# Altium footprint library Footprint.PcbLib: 240 footprints (part 12 of 15)
Each footprint in its own frame and in the unit in brackets; x right, y up, seen from the top. Pads: shape width x height; smd on the part's side, far side on the other; paste and mask are expansions set on the pad; w line width, h text height; cw(c..) or ccw(c..) is an arc to the next point about the centre after c.
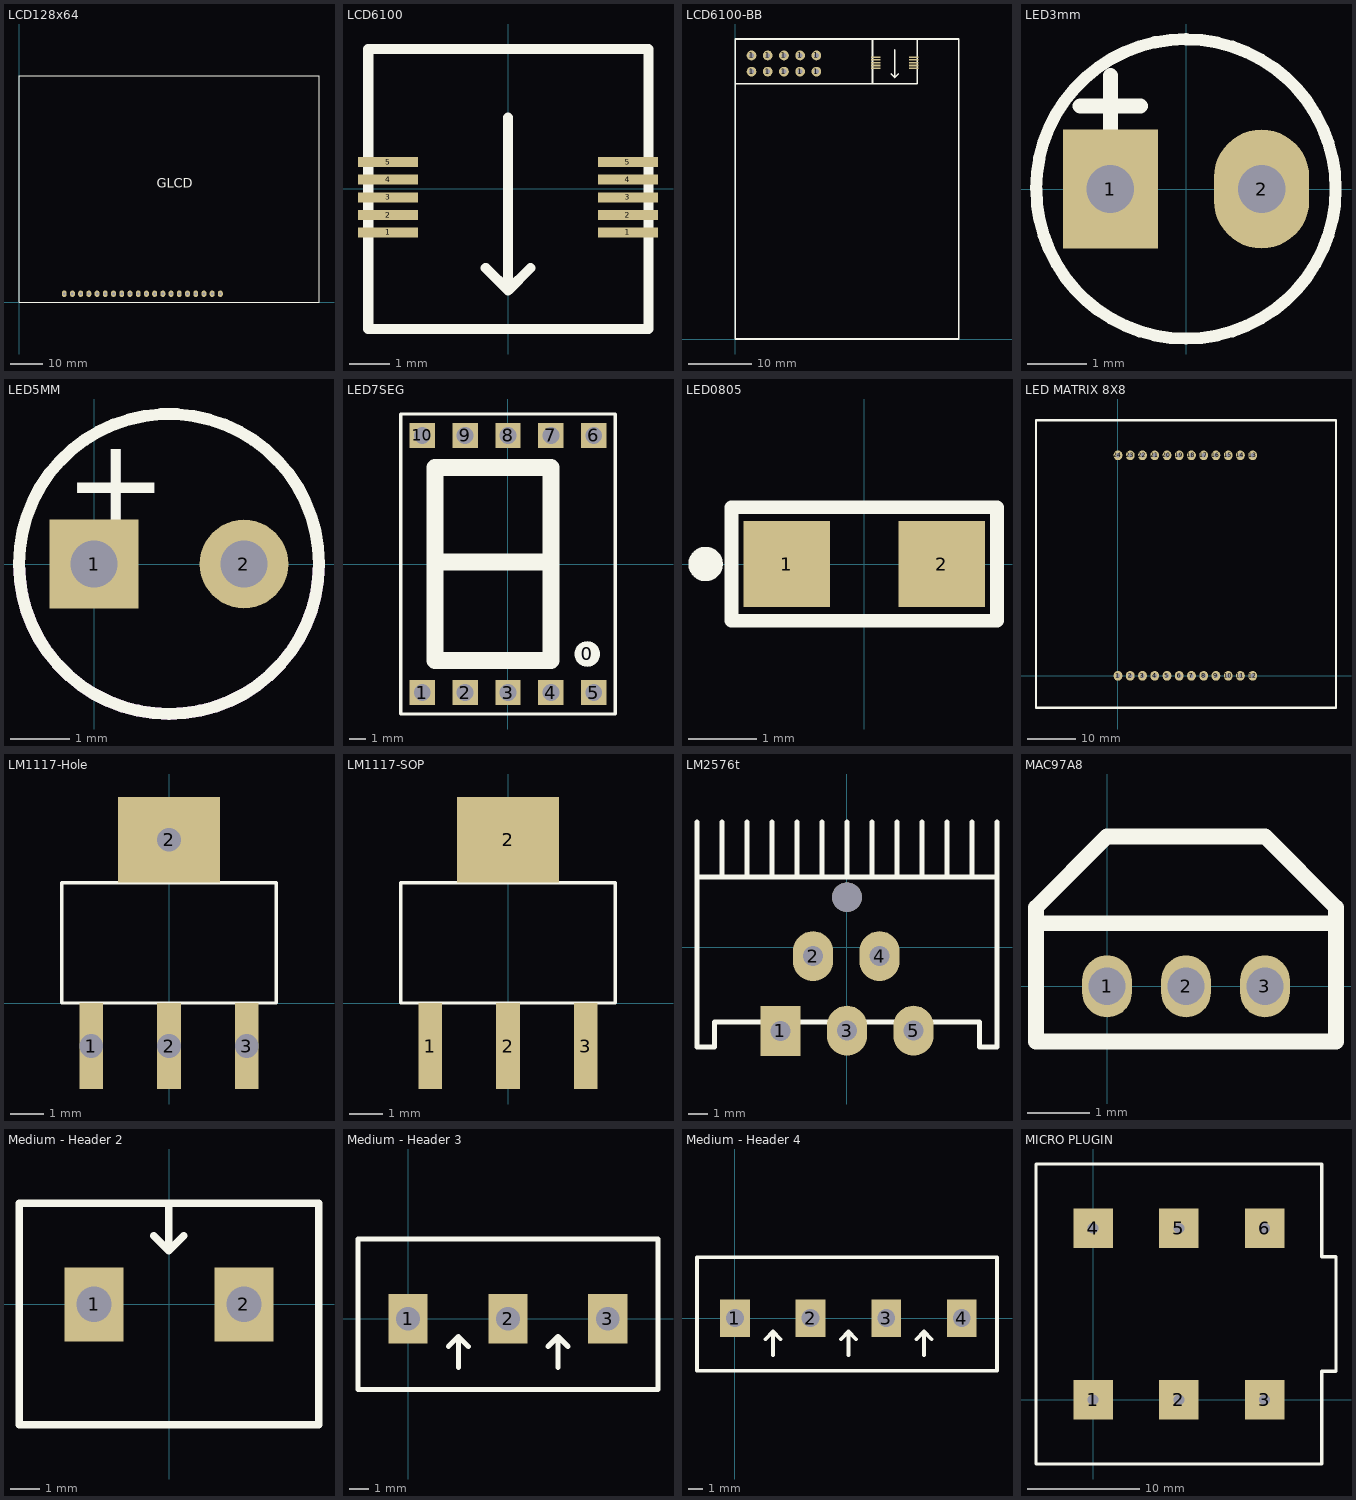
[diagram p11: the footprints below, top view; thin cyan lines are the x and y axes]

## LCD128x64 [mm]
pads (20):
  oval 1.5x2 hole 0.8: 1(62.23,2.54) 2(59.69,2.54) 3(57.15,2.54) 4(54.61,2.54) 5(52.07,2.54) 6(49.53,2.54) 7(46.99,2.54) 8(44.45,2.54) 9(41.91,2.54) 10(39.37,2.54) 11(36.83,2.54) 12(34.29,2.54) 13(31.75,2.54) 14(29.21,2.54) 15(26.67,2.54) 16(24.13,2.54) 17(21.59,2.54) 18(19.05,2.54) 19(16.51,2.54) 20(13.97,2.54)
Top Overlay:
  lines w0.15: 0,0 92.71,0 92.71,69.85 0,69.85 0,0
  text "GLCD" at 42.545,34.163 h5
3D body: height 15.4, standoff 0, extent -2.27,1.04 77.73,55.04

## LCD6100 [mm]
pads (10):
  rect 1.5x0.25 smd: 1(-3,-1.091) 1(2.994,-1.091) 2(-3,-0.66) 2(2.994,-0.66) 3(-3,-0.215) 3(2.994,-0.215) 4(-3,0.229) 4(2.994,0.229) 5(-3,0.661) 5(2.994,0.661)
Top Overlay:
  lines w0.254: -0.559,-1.981 0,-2.54 ; 0,1.778 0,-2.54 ; 0.559,-1.981 0,-2.54 ; -3.493,-3.507 -3.493,3.493 3.507,3.493 3.507,-3.507 -3.493,-3.507

## LCD6100-BB [mil]
pads (20):
  round 60 hole 30: 1(100,1649) 1(100,1749) 1(200,1649) 1(200,1749) 1(300,1649) 1(300,1749) 1(400,1649) 1(400,1749) 1(500,1649) 1(500,1749)
  rect 59.06x9.84 smd: 1(865.83,1669.92) 1(1101.83,1669.92) 2(865.83,1686.92) 2(1101.83,1686.92) 3(865.83,1704.42) 3(1101.83,1704.42) 4(865.83,1721.92) 4(1101.83,1721.92) 5(865.83,1738.92) 5(1101.83,1738.92)
Top Overlay:
  lines w10: 0,0 1377.95,0 1377.95,1849.39 ; 0,1 0,1850.39 1377.95,1850.39 ; 0,1574.8 1122.05,1574.8 ; 961.96,1634.89 983.96,1612.89 ; 983.96,1782.89 983.96,1612.89 ; 1005.96,1634.89 983.96,1612.89 ; 1122.05,1574.8 1122.05,1850.39 846.46,1850.39 846.46,1574.8 1122.05,1574.8

## LED3mm [mm]
pads (2):
  rect 1.6x2 hole 0.8: 1(-1.27,0)
  oval 1.6x2 hole 0.8: 2(1.27,0)
Top Overlay:
  lines w0.203: -2.521,0 cw(c0,0) 0,2.521 ; -2.514,0 ccw(c0,0) 0,-2.514 ccw(c0,0) 2.514,0 ccw(c0,0) 0,2.514
  lines w0.254: -1.778,1.397 -0.762,1.397 ; -1.27,0.889 -1.27,1.905
3D body: height 5.38, standoff -3.17, extent -1.992,-1.499 1.992,1.994

## LED5MM [mm]
pads (2):
  rect 1.5x1.5 hole 0.8: 1(0,0)
  round 1.5 hole 0.8: 2(2.54,0)
Top Overlay:
  lines w0.203: -1.27,0 cw(c1.27,0) 3.81,0 cw(c1.27,0) 1.27,-2.54 cw(c1.27,0) -1.27,0
  text "+" at -0.508,0.635 h1.52
Mechanical 1:
  lines w0.203: -1.27,0 ccw(c1.27,0) 1.27,-2.54 ccw(c1.27,0) 3.81,0

## LED7SEG [mm] "LED7SEG"
pads (11):
  round 1.524 on Top Overlay: 0(4.724,-5.334)
  rect 1.5x1.5 hole 1: 1(-5.055,-7.62) 2(-2.515,-7.62) 3(0.025,-7.62) 4(2.565,-7.62) 5(5.105,-7.62) 6(5.105,7.62) 7(2.565,7.62) 8(0.025,7.62) 9(-2.515,7.62) 10(-5.055,7.62)
Top Overlay:
  lines w0.2: -6.325,-8.89 6.375,-8.89 6.375,8.89 -6.325,8.89 -6.325,-8.89
  lines w1: -4.166,0.127 2.565,0.127 ; -4.293,-5.715 -4.293,5.715 2.565,5.715 2.565,-5.715 -4.293,-5.715
3D body: height 8.03, standoff -3.97, extent -6.35,-9.525 6.35,9.525

## LED0805 [mil] "Chip Resistor; Body 2.0 x 1.3 mm (LxW typ)"
height 100
pads (2):
  rect 50x50 smd: 1(-45,0) 2(45,0)
Top Overlay:
  circle w10: c-92,0 r5
  lines w7.87: 77,32 77,-33 -77,-33 -77,33 77,33
3D body: height 19.68, standoff 0, extent -60,-25 60,25
3D body: height 47.24, standoff 19.68, extent -35,-25 35,25

## LED MATRIX 8X8 [mm]
pads (24):
  oval 1.8x2 hole 0.9: 1(0,0) 2(2.54,0) 3(5.08,0) 4(7.62,0) 5(10.16,0) 6(12.7,0) 7(15.24,0) 8(17.78,0) 9(20.32,0) 10(22.86,0) 11(25.4,0) 12(27.94,0) 13(27.94,45.72) 14(25.4,45.72) 15(22.86,45.72) 16(20.32,45.72) 17(17.78,45.72) 18(15.24,45.72) 19(12.7,45.72) 20(10.16,45.72) 21(7.62,45.72) 22(5.08,45.72) 23(2.54,45.72) 24(0,45.72)
Top Overlay:
  lines w0.5: -17.006,-6.65 -17.006,53.04 -2.401,53.04 45.224,53.04 45.224,-6.65 -17.006,-6.65

## LM1117-Hole [mm]
pads (4):
  rect 0.7x2.54 hole 0.7: 1(-2.3,-1.27) 2(0,-1.27) 3(2.3,-1.27)
  rect 3x2.54 hole 0.7: 2(0,4.826)
Top Overlay:
  lines w0.1: -3.175,0 3.175,0 3.175,3.556 -3.175,3.556 -3.175,0
3D body: height 1.68, standoff 0, extent -3.25,-1.702 3.25,5.258

## LM1117-SOP [mm]
pads (4):
  rect 0.7x2.54 smd: 1(-2.3,-1.27) 2(0,-1.27) 3(2.3,-1.27)
  rect 3x2.54 smd: 2(0,4.826)
Top Overlay:
  lines w0.1: -3.175,0 -3.175,3.556 3.175,3.556 3.175,0 -3.175,0
3D body: height 1.68, standoff 0, extent -3.25,-1.778 3.25,5.182

## LM2576t [mil]
pads (6):
  rect 80x100 hole 40: 1(-132,-167.09)
  oval 80x100 hole 40: 2(-67,-18) 3(1,-167) 4(66,-18) 5(134,-167)
  round 59.06 hole 59.06: ""(1,100)
Top Overlay:
  lines w10: -299,140 301,140 ; -299,250 -299,-200 -264,-200 -264,-150 266,-150 266,-200 301,-200 301,250 ; -249,140 -249,250 ; -199,140 -199,250 ; -149,140 -149,250 ; -99,140 -99,250 ; -49,140 -49,250 ; 1,140 1,250 ; 51,140 51,250 ; 101,140 101,250 ; 151,140 151,250 ; 201,140 201,250 ; 251,140 251,250
3D body: height 859.05, standoff -85.43, extent -199,-174.91 201,149.5

## MAC97A8 [mm]
pads (3):
  oval 0.8x1 hole 0.6: 1(0,0) 2(1.27,0) 3(2.54,0)
Top Overlay:
  lines w0.254: -1.143,1.016 -1.143,-0.889 3.683,-0.889 3.683,1.016 ; -1.143,1.016 -1.143,1.27 0,2.413 2.54,2.413 3.683,1.27 3.683,1.016 ; -1.143,1.016 3.683,1.016

## Medium - Header 2 [mm]
pads (2):
  rect 2x2.5 hole 1.2: 1(-2.54,0) 2(2.54,0)
Top Overlay:
  lines w0.254: -0.521,2.324 -0.013,1.816 ; -0.013,3.378 -0.013,1.816 ; 0.495,2.324 -0.013,1.816 ; -5.08,-4.077 5.08,-4.077 5.08,3.429 -5.08,3.429 -5.08,-4.077
3D body: height 10, standoff -4, extent -5,-4.071 5,3.429

## Medium - Header 3 [mm]
pads (3):
  rect 2x2.5 hole 1.2: 1(0,0) 2(5.08,0) 3(10.147,0)
Top Overlay:
  lines w0.254: 2.045,-1.41 2.553,-0.902 ; 2.553,-2.464 2.553,-0.902 ; 3.061,-1.41 2.553,-0.902 ; 7.112,-1.41 7.62,-0.902 ; 7.62,-2.464 7.62,-0.902 ; 8.128,-1.41 7.62,-0.902 ; -2.54,-3.581 12.7,-3.581 12.7,4.064 -2.54,4.064 -2.54,-3.581
3D body: height 10, standoff -4, extent -2.42,-3.505 12.58,3.995

## Medium - Header 4 [mm]
pads (4):
  rect 2x2.5 hole 1.2: 1(0,0) 2(5.08,0) 3(10.147,0) 4(15.215,0)
Top Overlay:
  lines w0.254: 2.045,-1.41 2.553,-0.902 ; 2.553,-2.464 2.553,-0.902 ; 3.061,-1.41 2.553,-0.902 ; 7.112,-1.41 7.62,-0.902 ; 7.62,-2.464 7.62,-0.902 ; 8.128,-1.41 7.62,-0.902 ; 12.179,-1.41 12.687,-0.902 ; 12.687,-2.464 12.687,-0.902 ; 13.195,-1.41 12.687,-0.902 ; -2.54,-3.531 17.577,-3.531 17.577,4.089 -2.54,4.089 -2.54,-3.531
3D body: height 10, standoff -4, extent -2.431,-3.461 17.569,4.039

## MICRO PLUGIN [mil]
pads (6):
  rect 137.8x137.8 / inner round 62 / far side rect 137.8x137.8 hole 38: 1(0,0) 2(300,0) 3(600,0) 4(0,600) 5(300,600) 6(600,600)
Top Overlay:
  lines w11.82: -200,-225 800,-225 800,100 850,100 850,500 800,500 800,825 -200,825 -200,-225